# EAGLE library part 236-148/000-006 (library con-wago_236)
Serie 236, Stand: 01.01.2012. Die jeweils aktuellen Daten zu diesem Artikel finden Sie in unserem Produktkatalog, den Sie unter www.wago.com einsehen können. As of: 01/01/2012. Please find the newest data for this article in our product catalogue, which can be viewed under www.wago.com.
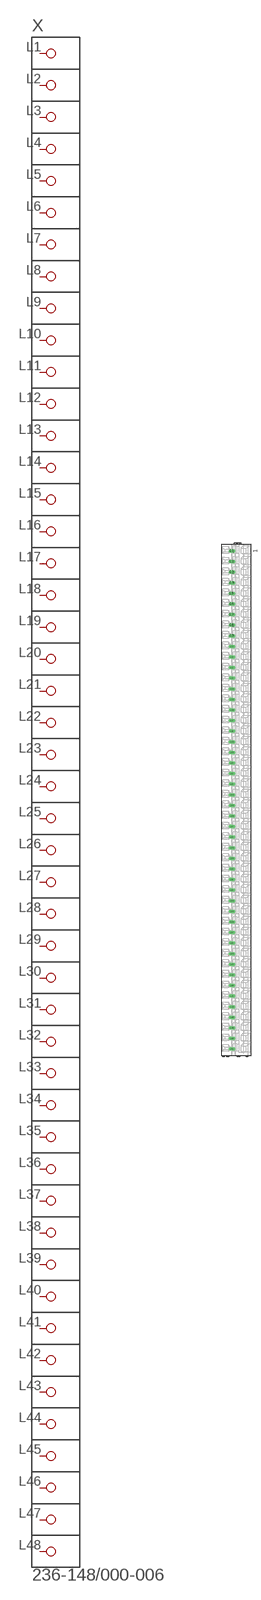
[diagram p90: symbol with the pads of P-236-148; footprint P-236-148]

Designator prefix X

## 236-148/000-006  [P-236-148]
L1  P1
L2  P2
L3  P3
L4  P4
L5  P5
L6  P6
L7  P7
L8  P8
L9  P9
L10  P10
L11  P11
L12  P12
L13  P13
L14  P14
L15  P15
L16  P16
L17  P17
L18  P18
L19  P19
L20  P20
L21  P21
L22  P22
L23  P23
L24  P24
L25  P25
L26  P26
L27  P27
L28  P28
L29  P29
L30  P30
L31  P31
L32  P32
L33  P33
L34  P34
L35  P35
L36  P36
L37  P37
L38  P38
L39  P39
L40  P40
L41  P41
L42  P42
L43  P43
L44  P44
L45  P45
L46  P46
L47  P47
L48  P48

## Footprint P-236-148 (pad centres in mm)
drill 1.1 long: L1 -2.043,117.35; L2 -2.043,112.35; L3 -2.043,107.35; L4 -2.043,102.35; L5 -2.043,97.35; L6 -2.043,92.35; L7 -2.043,87.35; L8 -2.043,82.35; L9 -2.043,77.35; L10 -2.043,72.35; L11 -2.043,67.35; L12 -2.043,62.35; L13 -2.043,57.35; L14 -2.043,52.35; L15 -2.043,47.35; L16 -2.043,42.35; L17 -2.043,37.35; L18 -2.043,32.35; L19 -2.043,27.35; L20 -2.043,22.35; L21 -2.043,17.35; L22 -2.043,12.35; L23 -2.043,7.35; L24 -2.043,2.35; L25 -2.043,-2.65; L26 -2.043,-7.65; L27 -2.043,-12.65; L28 -2.043,-17.65; L29 -2.043,-22.65; L30 -2.043,-27.65; L31 -2.043,-32.63; L32 -2.043,-37.65; L33 -2.043,-42.65; L34 -2.043,-47.65; L35 -2.043,-52.65; L36 -2.043,-57.65; L37 -2.043,-62.65; L38 -2.043,-67.65; L39 -2.043,-72.65; L40 -2.043,-77.65; L41 -2.043,-82.65; L42 -2.043,-87.65; L43 -2.043,-92.65; L44 -2.043,-97.65; L45 -2.043,-102.65; L46 -2.043,-107.65; L47 -2.043,-112.65; L48 -2.043,-117.65